# Altium footprint library MCU Board.PCBLIB: 34 footprints (part 1 of 3)
Each footprint in its own frame and in the unit in brackets; x right, y up, seen from the top. Pads: shape width x height; smd on the part's side, far side on the other; paste and mask are expansions set on the pad; w line width, h text height; cw(c..) or ccw(c..) is an arc to the next point about the centre after c.
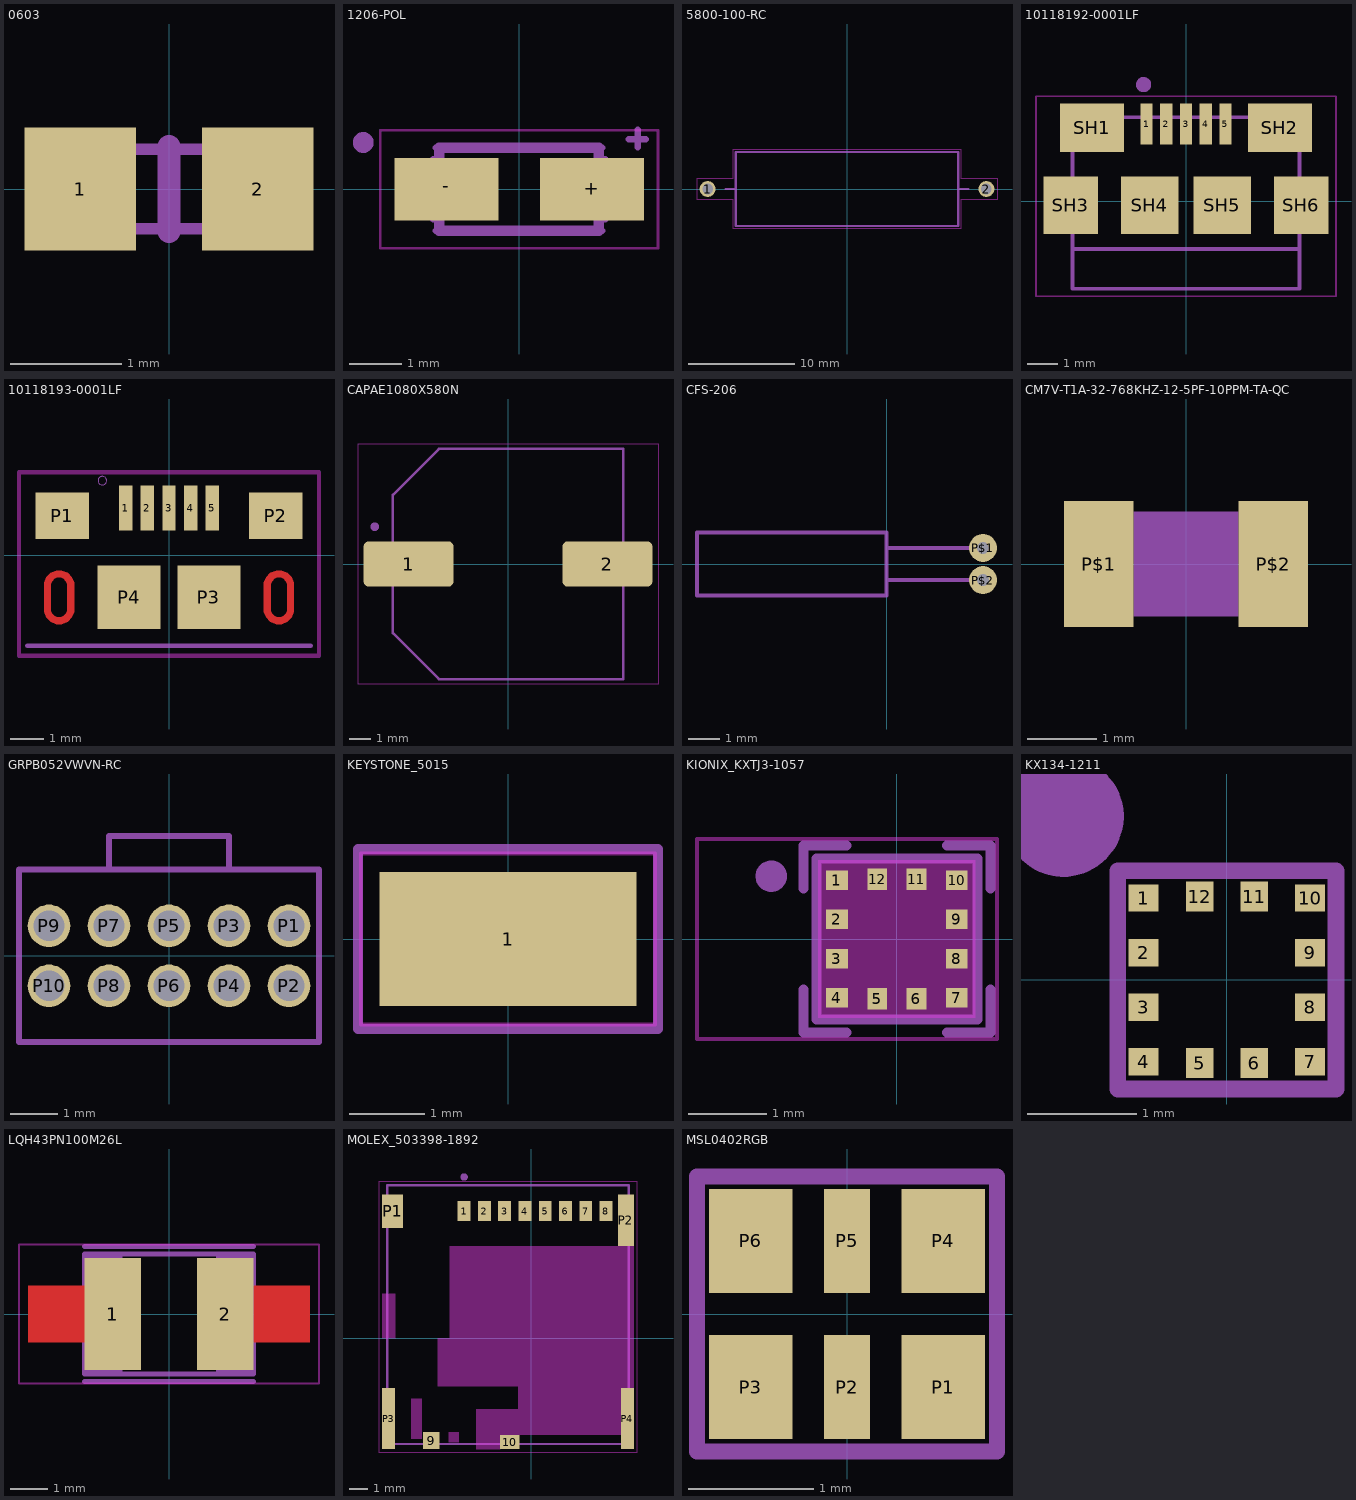
[diagram p0: the footprints below, top view; thin cyan lines are the x and y axes]

## 0603 [mm]
pads (2):
  rect 1x1.1 smd: 1(-0.794,0) 2(0.794,0)
tDocu:
  region: 0.432,-0.432 0.432,0.432 0.838,0.432 0.838,-0.432
  region: -0.838,-0.432 -0.838,0.432 -0.432,0.432 -0.432,-0.432
  lines w0.102: -0.432,-0.356 0.432,-0.356 ; -0.432,0.356 0.432,0.356
tPlace:
  lines w0.203: 0,-0.381 0,0.381

## 1206-POL [mm]
pads (2):
  rect 2x1.2 smd: +(1.4,0) -(-1.4,0)
Top keep-out:
  lines w0.051: -2.673,-1.133 2.673,-1.133 2.673,1.133 -2.673,1.133 -2.673,-1.133
tDocu:
  lines w0.152: -1.651,-0.559 -1.651,0.559 ; 1.651,-0.559 1.651,0.559
  lines w0.203: -1.535,-0.798 -1.535,0.798 1.535,0.798 1.535,-0.798 -1.535,-0.798
tPlace:
  circle w0.2: c-3,0.9 r0.1
  lines w0.127: -1.6,-0.8 1.6,-0.8 ; -1.6,0.8 1.6,0.8 ; 2.108,0.965 2.438,0.965 ; 2.286,0.813 2.286,1.143

## 5800-100-RC [mm]
pads (2):
  round 1.5 hole 1: 1(-13.11,0) 2(13.11,0)
Top keep-out:
  lines w0.05: -14.11,-1 -10.71,-1 -10.71,-3.73 10.71,-3.73 10.71,-1 14.11,-1 14.11,1 10.71,1 10.71,3.73 -10.71,3.73 -10.71,1 -14.11,1 -14.11,-1
tPlace:
  lines w0.2: -11.43,0 -10.46,0 ; 11.43,0 10.46,0 ; -10.46,0 -10.46,-3.48 10.46,-3.48 10.46,0 ; -10.46,0 -10.46,3.48 10.46,3.48 10.46,0

## 10118192-0001LF [mm]
pads (11):
  rect 0.4x1.35 smd: 1(-1.3,2.54) 2(-0.65,2.54) 3(0,2.54) 4(0.65,2.54) 5(1.3,2.54)
  rect 2.1x1.6 smd: SH1(-3.1,2.415) SH2(3.1,2.415)
  rect 1.8x1.9 smd: SH3(-3.8,-0.135) SH6(3.8,-0.135)
  rect 1.9x1.9 smd: SH4(-1.2,-0.135) SH5(1.2,-0.135)
Top keep-out:
  lines w0.05: -4.95,-3.146 4.95,-3.146 4.95,3.465 -4.95,3.465 -4.95,-3.146
tDocu:
  circle w0.3: c-1.4,3.84 r0.1
  lines w0.127: -3.75,-1.585 -3.75,-2.896 3.75,-2.896 3.75,-1.585 ; -3.75,-1.585 -3.75,2.765 3.75,2.765 3.75,-1.585 ; -3.75,-1.585 3.34,-1.585 3.75,-1.585
tPlace:
  circle w0.3: c-1.4,3.84 r0.1
  lines w0.127: -3.75,-1.31 -3.75,-1.585 3.75,-1.585 3.75,-1.31 ; -3.75,1.04 -3.75,1.39 ; -1.83,2.765 -1.72,2.765 ; 1.72,2.765 1.83,2.765 ; 3.75,1.04 3.75,1.39

## 10118193-0001LF [mm]
pads (9):
  rect 0.4x1.35 smd: 1(-1.3,1.405) 2(-0.65,1.405) 3(0,1.405) 4(0.65,1.405) 5(1.3,1.405)
  rect 1.6x1.4 smd: P1(-3.2,1.18) P2(3.2,1.18)
  rect 1.9x1.9 smd: P3(1.2,-1.27) P4(-1.2,-1.27)
Top:
  region: -3.05,-1.27 -2.85,-1.27 -2.85,-0.92 -2.85,-0.83 -2.918,-0.665 -3.045,-0.538 -3.21,-0.47 -3.3,-0.47 -3.389,-0.47 -3.555,-0.538 -3.682,-0.665 -3.75,-0.83 -3.75,-0.92 -3.75,-1.27 -3.55,-1.27 -3.55,-0.92 -3.545,-0.871 -3.508,-0.781 -3.439,-0.712 -3.349,-0.675 -3.3,-0.67 -3.251,-0.675 -3.161,-0.712 -3.092,-0.781 -3.055,-0.871 -3.05,-0.92
  region: -3.05,-1.27 -2.85,-1.27 -2.85,-1.62 -2.85,-1.71 -2.918,-1.875 -3.045,-2.002 -3.21,-2.07 -3.3,-2.07 -3.389,-2.07 -3.555,-2.002 -3.682,-1.875 -3.75,-1.71 -3.75,-1.62 -3.75,-1.27 -3.55,-1.27 -3.55,-1.62 -3.545,-1.669 -3.508,-1.759 -3.439,-1.828 -3.349,-1.865 -3.3,-1.87 -3.251,-1.865 -3.161,-1.828 -3.092,-1.759 -3.055,-1.669 -3.05,-1.62
  region: 3.55,-1.27 3.75,-1.27 3.75,-0.92 3.75,-0.83 3.682,-0.665 3.555,-0.538 3.389,-0.47 3.3,-0.47 3.21,-0.47 3.045,-0.538 2.918,-0.665 2.85,-0.83 2.85,-0.92 2.85,-1.27 3.05,-1.27 3.05,-0.92 3.055,-0.871 3.092,-0.781 3.161,-0.712 3.251,-0.675 3.3,-0.67 3.349,-0.675 3.439,-0.712 3.508,-0.781 3.545,-0.871 3.55,-0.92
  region: 3.55,-1.27 3.75,-1.27 3.75,-1.62 3.75,-1.71 3.682,-1.875 3.555,-2.002 3.389,-2.07 3.3,-2.07 3.21,-2.07 3.045,-2.002 2.918,-1.875 2.85,-1.71 2.85,-1.62 2.85,-1.27 3.05,-1.27 3.05,-1.62 3.055,-1.669 3.092,-1.759 3.161,-1.828 3.251,-1.865 3.3,-1.87 3.349,-1.865 3.439,-1.828 3.508,-1.759 3.545,-1.669 3.55,-1.62
Top keep-out:
  lines w0.127: -4.5,-3.02 -4.5,2.48 4.5,2.48 4.5,-3.02 -4.5,-3.02
Top Paste:
  region: -3.05,-1.27 -2.85,-1.27 -2.85,-0.92 -2.85,-0.83 -2.918,-0.665 -3.045,-0.538 -3.21,-0.47 -3.3,-0.47 -3.389,-0.47 -3.555,-0.538 -3.682,-0.665 -3.75,-0.83 -3.75,-0.92 -3.75,-1.27 -3.55,-1.27 -3.55,-0.92 -3.545,-0.871 -3.508,-0.781 -3.439,-0.712 -3.349,-0.675 -3.3,-0.67 -3.251,-0.675 -3.161,-0.712 -3.092,-0.781 -3.055,-0.871 -3.05,-0.92
  region: -3.55,-1.27 -3.75,-1.27 -3.75,-1.62 -3.75,-1.71 -3.682,-1.875 -3.555,-2.002 -3.389,-2.07 -3.3,-2.07 -3.21,-2.07 -3.045,-2.002 -2.918,-1.875 -2.85,-1.71 -2.85,-1.62 -2.85,-1.27 -3.05,-1.27 -3.05,-1.62 -3.055,-1.669 -3.092,-1.759 -3.161,-1.828 -3.251,-1.865 -3.3,-1.87 -3.349,-1.865 -3.439,-1.828 -3.508,-1.759 -3.545,-1.669 -3.55,-1.62
  region: 3.55,-1.27 3.75,-1.27 3.75,-0.92 3.75,-0.83 3.682,-0.665 3.555,-0.538 3.389,-0.47 3.3,-0.47 3.21,-0.47 3.045,-0.538 2.918,-0.665 2.85,-0.83 2.85,-0.92 2.85,-1.27 3.05,-1.27 3.05,-0.92 3.055,-0.871 3.092,-0.781 3.161,-0.712 3.251,-0.675 3.3,-0.67 3.349,-0.675 3.439,-0.712 3.508,-0.781 3.545,-0.871 3.55,-0.92
  region: 3.55,-1.27 3.75,-1.27 3.75,-1.62 3.75,-1.71 3.682,-1.875 3.555,-2.002 3.389,-2.07 3.3,-2.07 3.21,-2.07 3.045,-2.002 2.918,-1.875 2.85,-1.71 2.85,-1.62 2.85,-1.27 3.05,-1.27 3.05,-1.62 3.055,-1.669 3.092,-1.759 3.161,-1.828 3.251,-1.865 3.3,-1.87 3.349,-1.865 3.439,-1.828 3.508,-1.759 3.545,-1.669 3.55,-1.62
Top Solder:
  region: -3.05,-1.27 -2.75,-1.27 -2.75,-0.92 -2.75,-0.811 -2.834,-0.608 -2.988,-0.454 -3.191,-0.37 -3.3,-0.37 -3.409,-0.37 -3.611,-0.454 -3.766,-0.608 -3.85,-0.811 -3.85,-0.92 -3.85,-1.27 -3.55,-1.27 -3.55,-0.92 -3.545,-0.871 -3.508,-0.781 -3.439,-0.712 -3.349,-0.675 -3.3,-0.67 -3.251,-0.675 -3.161,-0.712 -3.092,-0.781 -3.055,-0.871 -3.05,-0.92
  region: -3.55,-1.27 -3.85,-1.27 -3.85,-1.62 -3.85,-1.729 -3.766,-1.932 -3.611,-2.086 -3.409,-2.17 -3.3,-2.17 -3.191,-2.17 -2.988,-2.086 -2.834,-1.932 -2.75,-1.729 -2.75,-1.62 -2.75,-1.27 -3.05,-1.27 -3.05,-1.62 -3.055,-1.669 -3.092,-1.759 -3.161,-1.828 -3.251,-1.865 -3.3,-1.87 -3.349,-1.865 -3.439,-1.828 -3.508,-1.759 -3.545,-1.669 -3.55,-1.62
  region: 3.55,-1.27 3.85,-1.27 3.85,-0.92 3.85,-0.811 3.766,-0.608 3.611,-0.454 3.409,-0.37 3.3,-0.37 3.191,-0.37 2.988,-0.454 2.834,-0.608 2.75,-0.811 2.75,-0.92 2.75,-1.27 3.05,-1.27 3.05,-0.92 3.055,-0.871 3.092,-0.781 3.161,-0.712 3.251,-0.675 3.3,-0.67 3.349,-0.675 3.439,-0.712 3.508,-0.781 3.545,-0.871 3.55,-0.92
  region: 3.05,-1.27 2.75,-1.27 2.75,-1.62 2.75,-1.729 2.834,-1.932 2.988,-2.086 3.191,-2.17 3.3,-2.17 3.409,-2.17 3.611,-2.086 3.766,-1.932 3.85,-1.729 3.85,-1.62 3.85,-1.27 3.55,-1.27 3.55,-1.62 3.545,-1.669 3.508,-1.759 3.439,-1.828 3.349,-1.865 3.3,-1.87 3.251,-1.865 3.161,-1.828 3.092,-1.759 3.055,-1.669 3.05,-1.62
tPlace:
  circle w0: c-2,2.23 r0.127
  lines w0.127: -4.25,-2.72 4.25,-2.72

## 20021121-00010 [mil]

## CAPAE1080X580N [mil]
pads (2):
  rrect25% 166.93x83.86 smd: 1(-183.66,0) 2(183.66,0)
Top keep-out:
  lines w1.97: -276.97,-222.44 276.97,-222.44 276.97,222.44 -276.97,222.44 -276.97,-222.44
tDocu:
  circle w7.87: c-246.06,68.9 r3.94
  lines w5: -212.6,-127.56 -127.56,-212.6 212.6,-212.6 212.6,212.6 -127.56,212.6 -212.6,127.56 -212.6,-127.56
tPlace:
  circle w7.87: c-246.06,68.9 r3.94
  lines w5: -212.6,-54.29 -212.6,-127.56 -127.56,-212.6 212.6,-212.6 212.6,-54.29 ; -212.6,54.29 -212.6,127.56 -127.56,212.6 212.6,212.6 212.6,54.29

## CFS-206 [mil]
pads (2):
  round 35 hole 15: P$1(120,20) P$2(120,-20)
tPlace:
  lines w5: 118.11,-19.69 0,-19.69 ; 118.11,19.69 0,19.69 ; 0,-19.69 0,-39.37 -236.22,-39.37 -236.22,39.37 0,39.37 0,19.69 ; 0,-19.69 0,19.69

## CM7V-T1A-32-768KHZ-12-5PF-10PPM-TA-QC [mm]
pads (2):
  rect 1x1.8 smd: P$1(-1.25,0) P$2(1.25,0)
tPlace:
  region: -0.75,-0.75 -0.75,0.75 0.75,0.75 0.75,-0.75

## GRPB052VWVN-RC [mm]
pads (10):
  round 0.9 hole 0.65: P1(2.54,0.635) P2(2.54,-0.635) P3(1.27,0.635) P4(1.27,-0.635) P5(0,0.635) P6(0,-0.635) P7(-1.27,0.635) P8(-1.27,-0.635) P9(-2.54,0.635) P10(-2.54,-0.635)
tPlace:
  lines w0.127: -1.27,1.905 -1.27,2.54 1.27,2.54 1.27,1.905 ; -3.175,-1.829 3.175,-1.829 3.175,1.829 -3.175,1.829 -3.175,-1.829

## KEYSTONE_5015 [mm]
pads (1):
  rect 3.43x1.78 smd: 1(0,0)
Top keep-out:
  lines w0.05: -1.965,-1.14 -1.965,1.14 1.965,1.14 1.965,-1.14 -1.965,-1.14
tDocu:
  lines w0.127: -1.335,-0.51 1.335,-0.51 1.335,0.51 -1.335,0.51 -1.335,-0.51
tPlace:
  lines w0.127: -2,-1.2 2,-1.2 2,1.2 -2,1.2 -2,-1.2

## KIONIX_KXTJ3-1057 [mil]
pads (12):
  rect 10.83x9.84 smd: 1(-30.02,29.53) 2(-30.02,9.84) 3(-30.02,-9.84) 4(-30.02,-29.53) 7(30.02,-29.53) 8(30.02,-9.84) 9(30.02,9.84) 10(30.02,29.53)
  rect 9.84x10.83 smd: 5(-9.84,-30.02) 6(9.84,-30.02) 11(9.84,30.02) 12(-9.84,30.02)
Top keep-out:
  region: -39.37,-39.37 -39.37,39.37 39.37,39.37 39.37,-39.37
  region: -24.41,-24.41 -24.41,24.41 24.41,24.41 24.41,-24.41
  lines w1.97: -100.2,-50.2 -100.2,50.2 50.2,50.2 50.2,-50.2 -100.2,-50.2
tDocu:
  circle w7.87: c-62.99,31.5 r3.94
  lines w5: -40.35,-40.35 -40.35,40.35 40.35,40.35 40.35,-40.35 -40.35,-40.35
tPlace:
  circle w7.87: c-62.99,31.5 r3.94
  lines w5: -46.85,-25.2 -46.85,-46.85 -25.2,-46.85 ; -46.85,25.2 -46.85,46.85 -25.2,46.85 ; 25.2,-46.85 46.85,-46.85 46.85,-25.2 ; 25.2,46.85 46.85,46.85 46.85,25.2

## KX134-1211 [mil]
pads (12):
  rect 10.83x9.84 smd mask+0: 1(-30.02,29.53) 2(-30.02,9.84) 3(-30.02,-9.84) 4(-30.02,-29.53) 7(30.02,-29.53) 8(30.02,-9.84) 9(30.02,9.84) 10(30.02,29.53)
  rect 9.84x10.83 smd mask+0: 5(-9.84,-30.02) 6(9.84,-30.02) 11(9.84,30.02) 12(-9.84,30.02)
Top Solder:
  region: 22.64,22.64 22.64,36.42 37.4,36.42 37.4,22.64
  region: -16.73,22.64 -16.73,37.4 -2.95,37.4 -2.95,22.64
  region: 22.64,2.95 22.64,16.73 37.4,16.73 37.4,2.95
  region: 22.64,-16.73 22.64,-2.95 37.4,-2.95 37.4,-16.73
  region: 22.64,-36.42 22.64,-22.64 37.4,-22.64 37.4,-36.42
  region: -37.4,22.64 -37.4,36.42 -22.64,36.42 -22.64,22.64
  region: -37.4,2.95 -37.4,16.73 -22.64,16.73 -22.64,2.95
  region: -37.4,-16.73 -37.4,-2.95 -22.64,-2.95 -22.64,-16.73
  region: -37.4,-36.42 -37.4,-22.64 -22.64,-22.64 -22.64,-36.42
  region: 2.95,22.64 2.95,37.4 16.73,37.4 16.73,22.64
  region: -16.73,-37.4 -16.73,-22.64 -2.95,-22.64 -2.95,-37.4
  region: 2.95,-37.4 2.95,-22.64 16.73,-22.64 16.73,-37.4
tPlace:
  circle w24: c-59.06,59.06 r9.84
  lines w6: -39.37,-39.37 39.37,-39.37 39.37,39.37 -39.37,39.37 -39.37,-39.37

## LQH43PN100M26L [mm]
pads (2):
  rect 1.5x3 smd: 1(-1.5,0) 2(1.5,0)
Top:
  region: -3.753,-0.751 -3.753,0.75 -2.25,0.75 -2.25,-0.751
  region: 3.75,0.75 3.75,-0.751 2.253,-0.751 2.253,0.75
Top keep-out:
  lines w0.05: -4,-1.85 4,-1.85 4,1.85 -4,1.85 -4,-1.85
Top Paste:
  region: -3.761,-0.752 -3.761,0.75 -2.25,0.75 -2.25,-0.752
  region: 2.251,-0.751 2.251,0.75 3.75,0.75 3.75,-0.751
Top Solder:
  region: -3.858,-0.852 -3.858,0.85 -2.3,0.85 -2.3,-0.852
  region: 2.304,-0.851 2.304,0.85 3.8,0.85 3.8,-0.851
tDocu:
  lines w0.127: -2.25,-1.6 2.25,-1.6 2.25,1.6 -2.25,1.6 -2.25,-1.6
tPlace:
  lines w0.127: -2.25,-1.8 2.25,-1.8 ; -2.25,1.8 2.25,1.8
Document:
  region: -2.256,-1.604 -2.256,1.6 -1.25,1.6 -1.25,-1.604
  region: 1.253,-1.605 1.253,1.6 2.25,1.6 2.25,-1.605
  lines w0.01: -1.25,-1.6 1.25,-1.6 ; -1.25,1.6 1.25,1.6

## MOLEX_503398-1892 [mm]
pads (14):
  rect 0.7x1.1 smd: 1(-3.65,6.895) 2(-2.55,6.895) 3(-1.45,6.895) 4(-0.35,6.895) 5(0.75,6.895) 6(1.85,6.895) 7(2.95,6.895) 8(4.05,6.895)
  rect 0.9x0.93 smd: 9(-5.44,-5.57)
  rect 1.05x0.78 smd: 10(-1.175,-5.645)
  rect 1.14x1.83 smd: P1(-7.53,6.88)
  rect 0.86x2.8 smd: P2(5.13,6.395)
  rect 0.7x3.33 smd: P3(-7.75,-4.37) P4(5.21,-4.37)
Top keep-out:
  region: -6.515,-5.468 -6.515,-3.305 -5.955,-3.305 -5.955,-5.468
  region: -8.106,-0.006 -8.106,2.395 -7.4,2.395 -7.4,-0.006
  region: -4.492,-5.66 -4.492,-5.105 -3.94,-5.105 -3.94,-5.66
  region: -8.111,-0.007 -8.111,2.395 -7.4,2.395 -7.4,-0.007
  region: -6.509,-5.46 -6.509,-3.305 -5.955,-3.305 -5.955,-5.46
  region: -4.495,-5.667 -4.495,-5.105 -3.94,-5.105 -3.94,-5.667
  region: -4.44,4.995 -4.44,-0.005 -5.09,-0.005 -5.09,-2.605 -0.7,-2.605 -0.7,-3.855 -3,-3.855 -3,-6.035 -1.7,-6.035 -1.7,-5.255 4.86,-5.255 4.86,-2.705 5.56,-2.705 5.56,4.995
  region: -4.44,4.995 -4.44,-0.005 -5.09,-0.005 -5.09,-2.605 -0.7,-2.605 -0.7,-3.855 -3,-3.855 -3,-6.035 -1.7,-6.035 -1.7,-5.255 4.86,-5.255 4.86,-2.705 5.56,-2.705 5.56,4.995
  lines w0.05: -8.27,-6.23 5.73,-6.23 5.73,8.52 -8.27,8.52 -8.27,-6.23
tDocu:
  circle w0.2: c-3.65,7.045 r0.1
  lines w0.127: -7.82,-5.755 5.28,-5.755 5.28,8.295 -7.82,8.295 -7.82,-5.755
tPlace:
  circle w0.2: c-3.65,8.745 r0.1
  lines w0.127: -7.82,-2.405 -7.82,-0.305 ; -7.82,2.695 -7.82,5.595 ; -7.82,8.295 5.28,8.295 ; -7.146,-5.755 -6.144,-5.755 ; -0.396,-5.755 4.606,-5.755

## MSL0402RGB [mil]
pads (6):
  rect 26.38x32.68 smd: P1(30.32,-23.03) P3(-30.32,-23.03) P4(30.32,23.03) P6(-30.32,23.03)
  rect 14.57x32.68 smd: P2(0,-23.03) P5(0,23.03)
tPlace:
  lines w5: -47.24,-43.31 -47.24,43.31 47.24,43.31 47.24,-43.31 -47.24,-43.31